# Altium schematic symbol library XT30UPB-F.SchLib: 1 symbol
Pins are listed as number, name and electrical type; pins without a type are passive.

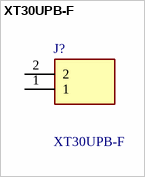
[diagram p0: symbol XT30UPB-F]

## XT30UPB-F
designator J?
Socket; DC supply; XT30; female; PIN: 2; on PCBs; THT; Colour: yellow; Manufacturer_Name: Amass; Geometry.Height: 9.4mm; Manufacturer_Part_Number: XT30UPB-F; Mouser Part Number: *; Mouser Price/Stock: *; Arrow Part Number: *; Arrow Price/Stock: *; Datasheet Link: https://www.tme.eu/Document/81f11ca924696756331f21b972812074/XT30PB-F.pdf
footprint XT30UPBF
pins: 1, 2